# EAGLE library part MAX31855RASA+T (library SW_Sensors)
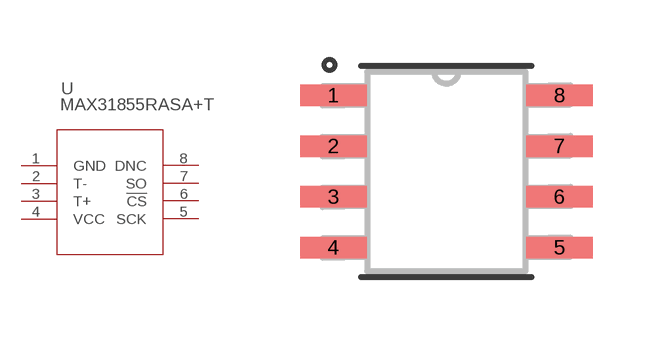
[diagram p0: symbol with the pads of SOIC-8; footprint SOIC-8]

Designator prefix U

## MAX31855RASA+T21-0041B_8_MXM-M (CATEGORY: Temperature; DESCRIPTION: IC CONV THERMOCOUPLE-DGTL 8SOIC; MFGS: Analog Devices,Analog Devices; MPNS: MAX31855RASA+T,MAX31855RASA+; PACKAGE: SOIC-8; PART_NUMBER: MAX31855RASA+; SW_PART_NUMBER: SW0000868)  [SOIC-8]
1  GND  pwr
2  T-  pas
3  T+  pas
4  VCC  pwr
5  SCK  pas
6  !CS  pas
7  SO  pas
8  DNC  pas

## Footprint SOIC-8 (pad centres in mm)
smd 1.664 x 0.533: 1 -2.826,1.905; 2 -2.826,0.635; 3 -2.826,-0.635; 4 -2.826,-1.905; 5 2.826,-1.905; 6 2.826,-0.635; 7 2.826,0.635; 8 2.826,1.905